# Altium footprint library RT5572.PcbLib: 3 footprints
Each footprint in its own frame and in the unit in brackets; x right, y up, seen from the top. Pads: shape width x height; smd on the part's side, far side on the other; paste and mask are expansions set on the pad; w line width, h text height; cw(c..) or ccw(c..) is an arc to the next point about the centre after c.
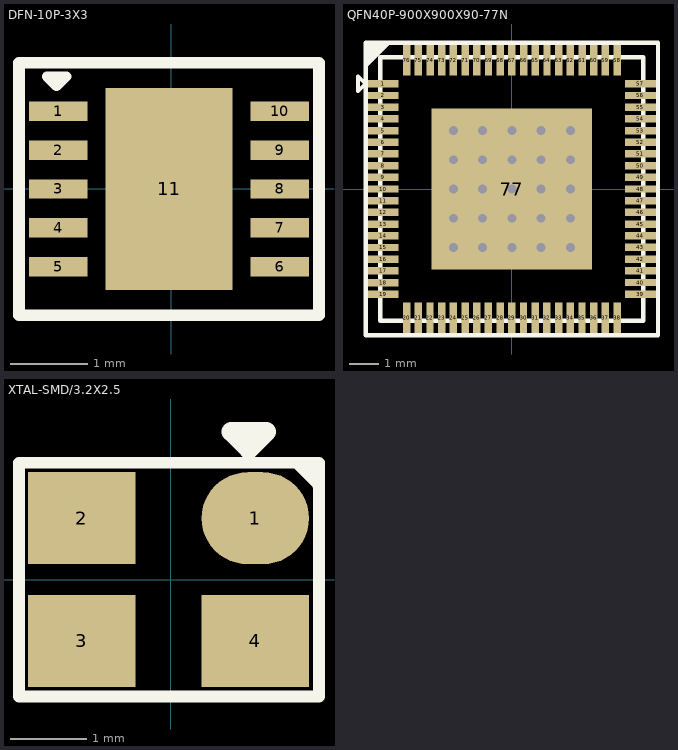
[diagram p0: the footprints below, top view; thin cyan lines are the x and y axes]

## DFN-10P-3X3 [mm]
height 2
pads (11):
  rect 0.75x0.25 smd mask+0.064: 1(-1.451,0.999) 2(-1.451,0.499) 3(-1.451,-0.001) 4(-1.451,-0.501) 5(-1.451,-1.001) 6(1.4,-1.001) 7(1.4,-0.501) 8(1.4,-0.001) 9(1.4,0.499) 10(1.4,0.999)
  rect 1.64x2.6 smd: 11(-0.025,-0.001)
Top Overlay:
  lines w0.127: -1.6,1.448 -1.346,1.448 -1.473,1.321 -1.6,1.448
  lines w0.152: -1.957,-1.627 -1.957,1.625 1.905,1.625 1.905,-1.627 -1.957,-1.627

## QFN40P-900X900X90-77N [mm]
height 2
pads (77):
  rect 1.05x0.254 smd mask+0: 1(-4.4,3.6) 2(-4.4,3.2) 3(-4.4,2.8) 4(-4.4,2.4) 5(-4.4,2) 6(-4.4,1.6) 7(-4.4,1.2) 8(-4.4,0.8) 9(-4.4,0.4) 10(-4.4,0) 11(-4.4,-0.4) 12(-4.4,-0.8) 13(-4.4,-1.2) 14(-4.4,-1.6) 15(-4.4,-2) 16(-4.4,-2.4) 17(-4.4,-2.8) 18(-4.4,-3.2) 19(-4.4,-3.6)
  rect 0.254x1.05 smd: 20(-3.601,-4.4) 21(-3.201,-4.4) 22(-2.801,-4.4) 23(-2.401,-4.4) 24(-2.001,-4.4) 25(-1.601,-4.4) 26(-1.201,-4.4) 27(-0.801,-4.4) 28(-0.401,-4.4) 29(-0.001,-4.4) 30(0.399,-4.4) 31(0.799,-4.4) 32(1.199,-4.4) 33(1.599,-4.4) 34(1.999,-4.4) 35(2.399,-4.4) 36(2.799,-4.4) 37(3.199,-4.4) 38(3.599,-4.4) 58(3.602,4.4) 59(3.202,4.4) 60(2.802,4.4) 61(2.402,4.4) 62(2.002,4.4) 63(1.602,4.4) 64(1.202,4.4) 65(0.802,4.4) 66(0.402,4.4) 67(0.002,4.4) 68(-0.398,4.4) 69(-0.798,4.4) 70(-1.198,4.4) 71(-1.598,4.4) 72(-1.998,4.4) 73(-2.398,4.4) 74(-2.798,4.4) 75(-3.198,4.4) 76(-3.598,4.4)
  rect 1.05x0.254 smd: 39(4.4,-3.6) 40(4.4,-3.2) 41(4.4,-2.8) 42(4.4,-2.4) 43(4.4,-2) 44(4.4,-1.6) 45(4.4,-1.2) 46(4.4,-0.8) 47(4.4,-0.4) 48(4.4,0) 49(4.4,0.4) 50(4.4,0.8) 51(4.4,1.2) 52(4.4,1.6) 53(4.4,2) 54(4.4,2.4) 55(4.4,2.8) 56(4.4,3.2) 57(4.4,3.6)
  rect 5.5x5.5 smd: 77(0,0)
via -2,-2 diameter 0.508 hole 0.305
via -2,-1 diameter 0.508 hole 0.305
via -2,0 diameter 0.508 hole 0.305
via -2,1 diameter 0.508 hole 0.305
via -2,2 diameter 0.508 hole 0.305
via -1,2 diameter 0.508 hole 0.305
via -1,1 diameter 0.508 hole 0.305
via -1,0 diameter 0.508 hole 0.305
via -1,-1 diameter 0.508 hole 0.305
via -1,-2 diameter 0.508 hole 0.305
via 2,-2 diameter 0.508 hole 0.305
via 1,-2 diameter 0.508 hole 0.305
via 0,-2 diameter 0.508 hole 0.305
via 0,-1 diameter 0.508 hole 0.305
via 1,-1 diameter 0.508 hole 0.305
via 2,-1 diameter 0.508 hole 0.305
via 2,0 diameter 0.508 hole 0.305
via 1,0 diameter 0.508 hole 0.305
via 1,1 diameter 0.508 hole 0.305
via 2,1 diameter 0.508 hole 0.305
via 2,2 diameter 0.508 hole 0.305
via 1,2 diameter 0.508 hole 0.305
via 0,2 diameter 0.508 hole 0.305
via 0,1 diameter 0.508 hole 0.305
via 0,0 diameter 0.508 hole 0.305
Top Overlay:
  lines w0.127: -5.263,3.346 -5.009,3.6 -5.263,3.854 -5.263,3.346
  lines w0.152: -5.004,4.216 -4.242,4.978 ; -4.985,4.794 -4.801,4.978 ; -4.978,4.597 -4.61,4.966 ; -4.953,4.445 -4.432,4.966 ; -5,-5 -5,5 5,5 5,-5 -5,-5 ; -4.5,-4.5 4.5,-4.5 4.5,4.5 -4.5,4.5 -4.5,-4.5

## XTAL-SMD/3.2X2.5 [mm]
height 2
pads (4):
  oval 1.4x1.2 smd mask+0.051: 1(1.1,0.8)
  rect 1.4x1.2 smd mask+0.051: 2(-1.163,0.8) 3(-1.162,-0.8) 4(1.1,-0.8)
Top Overlay:
  lines w0.127: 1.615,1.525 1.895,1.245 ; 1.742,1.52 1.895,1.367 1.895,1.372 1.895,1.374 1.895,1.389
  lines w0.152: -1.981,-1.524 -1.981,1.524 1.93,1.525 1.93,-1.524 -1.981,-1.524
  lines w0.254: 0.787,1.93 1.016,1.702 1.245,1.93 0.787,1.93